# Altium footprint library BNO085.PcbLib: 1 footprints
Each footprint in its own frame and in the unit in brackets; x right, y up, seen from the top. Pads: shape width x height; smd on the part's side, far side on the other; paste and mask are expansions set on the pad; w line width, h text height; cw(c..) or ccw(c..) is an arc to the next point about the centre after c.
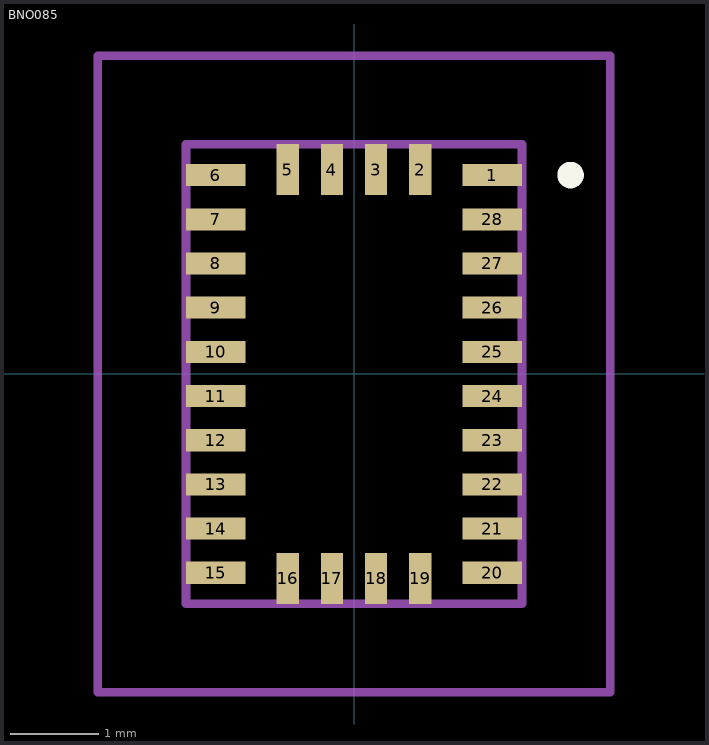
[diagram p0: the footprint, top view; thin cyan lines are the x and y axes]

## BNO085 [mm]
pads (28):
  rect 0.675x0.25 smd: 1(1.563,2.25) 6(-1.563,2.25) 7(-1.563,1.75) 8(-1.563,1.25) 9(-1.563,0.75) 10(-1.563,0.25) 11(-1.563,-0.25) 12(-1.563,-0.75) 13(-1.563,-1.25) 14(-1.563,-1.75) 15(-1.563,-2.25) 20(1.563,-2.25) 21(1.563,-1.75) 22(1.563,-1.25) 23(1.563,-0.75) 24(1.563,-0.25) 25(1.563,0.25) 26(1.563,0.75) 27(1.563,1.25) 28(1.563,1.75)
  rect 0.25x0.575 smd: 2(0.75,2.313) 3(0.25,2.313) 4(-0.25,2.313) 5(-0.75,2.313) 16(-0.75,-2.313) 17(-0.25,-2.313) 18(0.25,-2.313) 19(0.75,-2.313)
Top Overlay:
  lines w0.2: 2.4,2.25 2.4,2.25 ; 2.4,2.25 ccw(c2.45,2.25) 2.5,2.25 ; 2.4,2.25 cw(c2.45,2.25) 2.5,2.25 ; 2.4,2.25 2.4,2.25 ; 2.4,2.25 ccw(c2.45,2.25) 2.5,2.25 ; 2.5,2.25 2.5,2.25
Mechanical 15:
  lines w0.1: -1.9,-2.6 1.9,-2.6 1.9,2.6 -1.9,2.6 -1.9,-2.6
Mechanical 20:
  lines w0.1: -2.9,-3.601 2.9,-3.601 2.9,3.6 -2.9,3.6 -2.9,-3.601